# EAGLE library part DA14580-48 (library BQ25504)
Dialog Semiconductor BLE chip
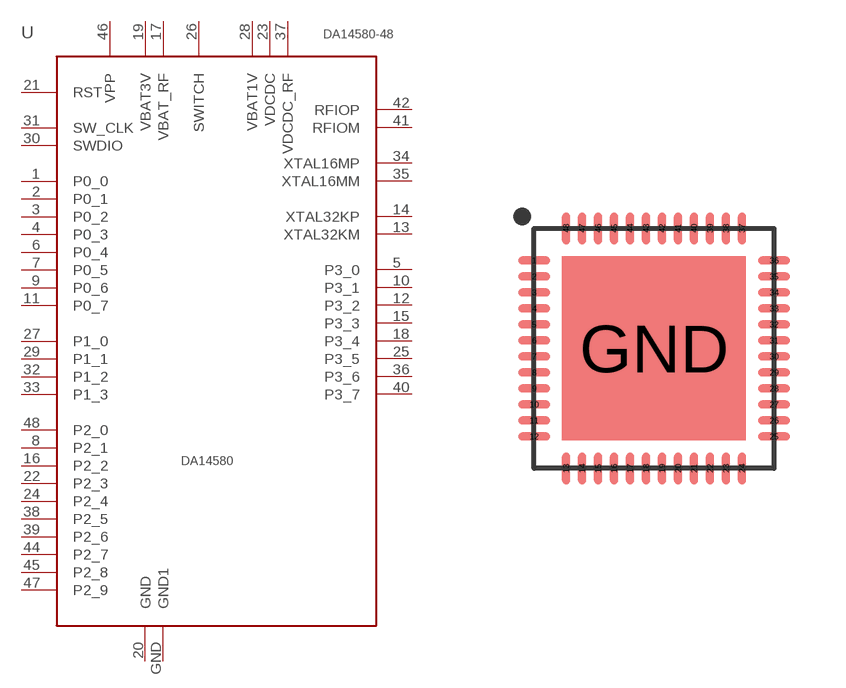
[diagram p33: symbol with the pads of QFN-48-6MM; footprint QFN-48-6MM]

Designator prefix U

## DA14580-48 (DIGIKEY: 1564-1014-1-ND)  [QFN-48-6MM]
1  P0_0
2  P0_1
3  P0_2
4  P0_3
5  P3_0
6  P0_4
7  P0_5
8  P2_1
9  P0_6
10  P3_1
11  P0_7
12  P3_2
13  XTAL32KM
14  XTAL32KP
15  P3_3
16  P2_2
17  VBAT_RF
18  P3_4
19  VBAT3V
20  GND
21  RST
22  P2_3
23  VDCDC
24  P2_4
25  P3_5
26  SWITCH
27  P1_0
28  VBAT1V
29  P1_1
30  SWDIO
31  SW_CLK
32  P1_2
33  P1_3
34  XTAL16MP
35  XTAL16MM
36  P3_6
37  VDCDC_RF
38  P2_5
39  P2_6
40  P3_7
41  RFIOM
42  RFIOP
44  P2_7
45  P2_8
46  VPP
47  P2_9
48  P2_0
GND  GND1

## Footprint QFN-48-6MM (pad centres in mm)
6MM x 6MM 48QFN package
smd 0.8 x 0.203: 1 -3,2.2; 2 -3,1.8; 3 -3,1.4; 4 -3,1; 5 -3,0.6; 6 -3,0.2; 7 -3,-0.2; 8 -3,-0.6; 9 -3,-1; 10 -3,-1.4; 11 -3,-1.8; 12 -3,-2.2; 25 3,-2.2; 26 3,-1.8; 27 3,-1.4; 28 3,-1; 29 3,-0.6; 30 3,-0.2; 31 3,0.2; 32 3,0.6; 33 3,1; 34 3,1.4; 35 3,1.8; 36 3,2.2
smd 0.203 x 0.8: 13 -2.2,-3; 14 -1.8,-3; 15 -1.4,-3; 16 -1,-3; 17 -0.6,-3; 18 -0.2,-3; 19 0.2,-3; 20 0.6,-3; 21 1,-3; 22 1.4,-3; 23 1.8,-3; 24 2.2,-3; 37 2.2,3; 38 1.8,3; 39 1.4,3; 40 1,3; 41 0.6,3; 42 0.2,3; 43 -0.2,3; 44 -0.6,3; 45 -1,3; 46 -1.4,3; 47 -1.8,3; 48 -2.2,3
smd 4.6 x 4.6: GND 0,0